# Altium footprint library pre_MICROCIRCUITRY.PcbLib: 35 footprints (part 3 of 3)
Each footprint in its own frame and in the unit in brackets; x right, y up, seen from the top. Pads: shape width x height; smd on the part's side, far side on the other; paste and mask are expansions set on the pad; w line width, h text height; cw(c..) or ccw(c..) is an arc to the next point about the centre after c.
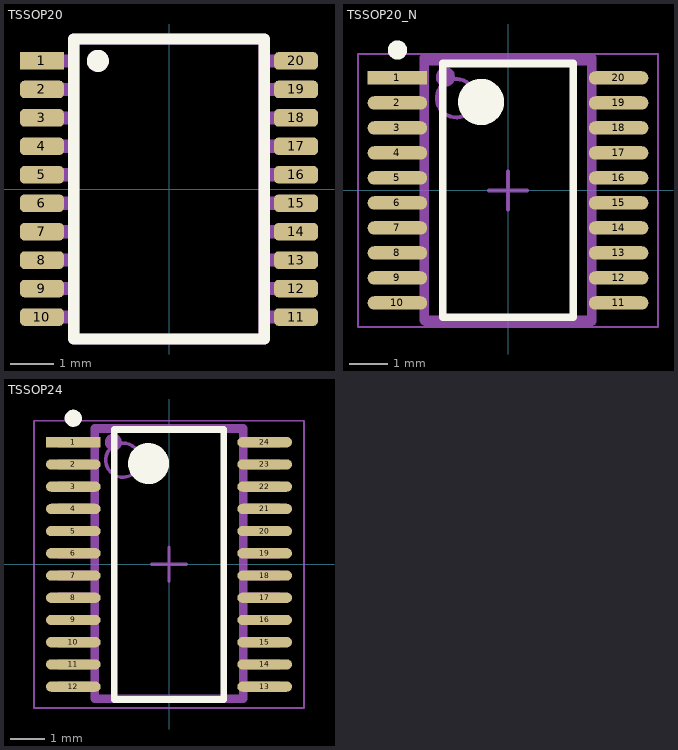
[diagram p2: the footprints below, top view; thin cyan lines are the x and y axes]

## TSSOP20 [mm]
pads (20):
  rect 1x0.4 smd: 1(-2.9,2.925)
  rrect50% 1x0.4 smd: 2(-2.9,2.275) 3(-2.9,1.625) 4(-2.9,0.975) 5(-2.9,0.325) 6(-2.9,-0.325) 7(-2.9,-0.975) 8(-2.9,-1.625) 9(-2.9,-2.275) 10(-2.9,-2.925) 11(2.9,-2.925) 12(2.9,-2.275) 13(2.9,-1.625) 14(2.9,-0.975) 15(2.9,-0.325) 16(2.9,0.325) 17(2.9,0.975) 18(2.9,1.625) 19(2.9,2.275) 20(2.9,2.925)
Top Overlay:
  lines w0.254: -1.5,2.9 cw(c-1.623,2.925) -1.498,2.925 ; -2.175,-3.425 -2.175,3.425 2.175,3.425 2.175,-3.425 -2.175,-3.425
Top Assy:
  lines w0.254: -2.175,2.85 -2.175,2.975 ; -1.513,2.981 ccw(c-1.625,2.925) -1.5,2.925 ; -2.175,-3.4 -2.175,3.425 2.175,3.425 2.175,-3.425 -2.15,-3.425 -2.175,-3.4
  lines w0.3: -3.2,-2.925 -2.2,-2.925 ; -3.2,-2.275 -2.2,-2.275 ; -3.2,-1.625 -2.2,-1.625 ; -3.2,-0.975 -2.2,-0.975 ; -3.2,-0.325 -2.2,-0.325 ; -3.2,0.325 -2.2,0.325 ; -3.2,0.975 -2.2,0.975 ; -3.2,1.625 -2.2,1.625 ; -3.2,2.275 -2.2,2.275 ; -3.2,2.925 -2.2,2.925 ; 2.2,-2.925 3.2,-2.925 ; 2.2,-2.275 3.2,-2.275 ; 2.2,-1.625 3.2,-1.625 ; 2.2,-0.975 3.2,-0.975 ; 2.2,-0.325 3.2,-0.325 ; 2.2,0.325 3.2,0.325 ; 2.2,0.975 3.2,0.975 ; 2.2,1.625 3.2,1.625 ; 2.2,2.275 3.2,2.275 ; 2.2,2.925 3.2,2.925

## TSSOP20_N [mm] "TSSOP, 20-Leads, Body 6,50x4,40mm, Pitch 0,65mm, IPC Medium Density"
height 1.2
pads (20):
  rect 1.55x0.35 smd: 1(-2.875,2.925)
  oval 1.55x0.35 smd: 2(-2.875,2.275) 3(-2.875,1.625) 4(-2.875,0.975) 5(-2.875,0.325) 6(-2.875,-0.325) 7(-2.875,-0.975) 8(-2.875,-1.625) 9(-2.875,-2.275) 10(-2.875,-2.925) 11(2.875,-2.925) 12(2.875,-2.275) 13(2.875,-1.625) 14(2.875,-0.975) 15(2.875,-0.325) 16(2.875,0.325) 17(2.875,0.975) 18(2.875,1.625) 19(2.875,2.275) 20(2.875,2.925)
Top Overlay:
  circle w0.25: c-2.875,3.65 r0.125
  circle w0.6: c-0.7,2.3 r0.3
  lines w0.2: -1.7,-3.3 -1.7,3.3 1.7,3.3 1.7,-3.3 -1.7,-3.3
Top Assy:
  lines w0.254: -2.175,2.875 -2.175,3 ; -1.513,3.006 ccw(c-1.625,2.95) -1.5,2.95 ; -2.175,-3.375 -2.15,-3.4 2.175,-3.4 2.175,3.45 -2.175,3.45 -2.175,-3.375
  lines w0.3: -3.2,-2.9 -2.2,-2.9 ; -3.2,-2.25 -2.2,-2.25 ; -3.2,-1.6 -2.2,-1.6 ; -3.2,-0.95 -2.2,-0.95 ; -3.2,-0.3 -2.2,-0.3 ; -3.2,0.35 -2.2,0.35 ; -3.2,1 -2.2,1 ; -3.2,1.65 -2.2,1.65 ; -3.2,2.3 -2.2,2.3 ; -3.2,2.95 -2.2,2.95 ; 2.2,-2.9 3.2,-2.9 ; 2.2,-2.25 3.2,-2.25 ; 2.2,-1.6 3.2,-1.6 ; 2.2,-0.95 3.2,-0.95 ; 2.2,-0.3 3.2,-0.3 ; 2.2,0.35 3.2,0.35 ; 2.2,1 3.2,1 ; 2.2,1.65 3.2,1.65 ; 2.2,2.3 3.2,2.3 ; 2.2,2.95 3.2,2.95
Mechanical 13:
  circle w0.1: c-1.35,2.4 r0.5
  lines w0.1: -2.25,-3.3 -2.25,3.3 2.25,3.3 2.25,-3.3 -2.25,-3.3
Mechanical 15:
  lines w0.05: -3.9,-3.55 -3.9,3.55 3.9,3.55 3.9,-3.55 -3.9,-3.55
  lines w0.1: -0.5,0 0.5,0 ; 0,-0.5 0,0.5
3D body: height 1.2, standoff 0.15, extent -2.25,-3.3 2.25,3.3

## TSSOP24 [mm] "TSSOP24"
height 1.2
pads (24):
  rect 1.6x0.3 smd: 1(-2.8,3.575)
  oval 1.6x0.3 smd: 2(-2.8,2.925) 3(-2.8,2.275) 4(-2.8,1.625) 5(-2.8,0.975) 6(-2.8,0.325) 7(-2.8,-0.325) 8(-2.8,-0.975) 9(-2.8,-1.625) 10(-2.8,-2.275) 11(-2.8,-2.925) 12(-2.8,-3.575) 13(2.8,-3.575) 14(2.8,-2.925) 15(2.8,-2.275) 16(2.8,-1.625) 17(2.8,-0.975) 18(2.8,-0.325) 19(2.8,0.325) 20(2.8,0.975) 21(2.8,1.625) 22(2.8,2.275) 23(2.8,2.925) 24(2.8,3.575)
Top Overlay:
  circle w0.25: c-2.8,4.275 r0.125
  circle w0.6: c-0.6,2.95 r0.3
  lines w0.2: -1.6,-3.95 -1.6,3.95 1.6,3.95 1.6,-3.95 -1.6,-3.95
Top Assy:
  lines w0.254: -1.513,3.631 ccw(c-1.625,3.575) -1.5,3.575 ; -2.175,-3.925 -2.175,3.975 2.175,3.975 2.175,-3.925 -2.175,-3.925
  lines w0.3: -3.2,-3.575 -2.2,-3.575 ; -3.2,-2.925 -2.2,-2.925 ; -3.2,-2.275 -2.2,-2.275 ; -3.2,-1.625 -2.2,-1.625 ; -3.2,-0.975 -2.2,-0.975 ; -3.2,-0.325 -2.2,-0.325 ; -3.2,0.325 -2.2,0.325 ; -3.2,0.975 -2.2,0.975 ; -3.2,1.625 -2.2,1.625 ; -3.2,2.275 -2.2,2.275 ; -3.2,2.925 -2.2,2.925 ; -3.2,3.575 -2.2,3.575 ; 2.2,-3.575 3.2,-3.575 ; 2.2,-2.925 3.2,-2.925 ; 2.2,-2.275 3.2,-2.275 ; 2.2,-1.625 3.2,-1.625 ; 2.2,-0.975 3.2,-0.975 ; 2.2,-0.325 3.2,-0.325 ; 2.2,0.325 3.2,0.325 ; 2.2,0.975 3.2,0.975 ; 2.2,1.625 3.2,1.625 ; 2.2,2.275 3.2,2.275 ; 2.2,2.925 3.2,2.925 ; 2.2,3.575 3.2,3.575
Mechanical 13:
  circle w0.1: c-1.35,3.05 r0.5
  lines w0.1: -2.25,-3.95 -2.25,3.95 2.25,3.95 2.25,-3.95 -2.25,-3.95
Mechanical 15:
  lines w0.05: -3.95,-4.2 -3.95,4.2 3.95,4.2 3.95,-4.2 -3.95,-4.2
  lines w0.1: -0.5,0 0.5,0 ; 0,-0.5 0,0.5
3D body: height 1.2, standoff 0.1, extent -2.25,-3.95 2.25,3.95